# Altium schematic symbol library SCH - INTERFACE - CAN - MICROCHIP MCP2551.SCHLIB: 1 symbol
Pins are listed as number, name and electrical type; pins without a type are passive.

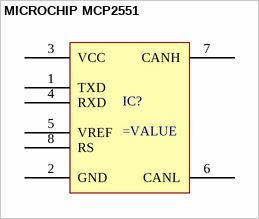
[diagram p0: symbol MICROCHIP MCP2551]

## MICROCHIP MCP2551
designator IC?
pins: 1 TXD, 2 GND, 3 VCC, 4 RXD, 5 VREF, 6 CANL, 7 CANH, 8 RS